# Altium footprint library elec shop.PcbLib: 6 footprints
Each footprint in its own frame and in the unit in brackets; x right, y up, seen from the top. Pads: shape width x height; smd on the part's side, far side on the other; paste and mask are expansions set on the pad; w line width, h text height; cw(c..) or ccw(c..) is an arc to the next point about the centre after c.
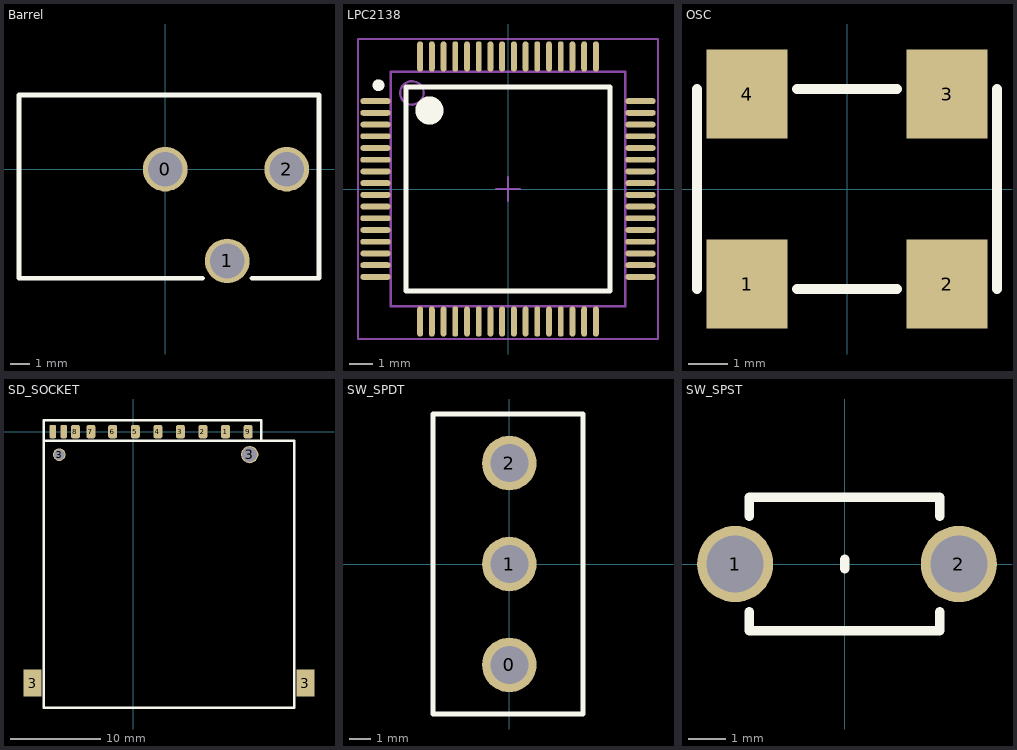
[diagram p0: the footprints below, top view; thin cyan lines are the x and y axes]

## Barrel [mil] "Barrel plug"
pads (3):
  round 90 hole 70: 0(0,0) 1(125,-185) 2(245,0)
Top Overlay:
  lines w10: 75,-220 -295,-220 -295,150 310,150 310,-220 175,-220

## LPC2138 [mm] "Thin QFP, 64-Leads, Body 10x10mm, Pitch 0.5mm, IPC High Density"
height 1.6
pads (64):
  oval 1.296x0.25 smd: 1(-5.652,3.75) 2(-5.652,3.25) 3(-5.652,2.75) 4(-5.652,2.25) 5(-5.652,1.75) 6(-5.652,1.25) 7(-5.652,0.75) 8(-5.652,0.25) 9(-5.652,-0.25) 10(-5.652,-0.75) 11(-5.652,-1.25) 12(-5.652,-1.75) 13(-5.652,-2.25) 14(-5.652,-2.75) 15(-5.652,-3.25) 16(-5.652,-3.75) 33(5.652,-3.75) 34(5.652,-3.25) 35(5.652,-2.75) 36(5.652,-2.25) 37(5.652,-1.75) 38(5.652,-1.25) 39(5.652,-0.75) 40(5.652,-0.25) 41(5.652,0.25) 42(5.652,0.75) 43(5.652,1.25) 44(5.652,1.75) 45(5.652,2.25) 46(5.652,2.75) 47(5.652,3.25) 48(5.652,3.75)
  oval 0.25x1.296 smd: 17(-3.75,-5.652) 18(-3.25,-5.652) 19(-2.75,-5.652) 20(-2.25,-5.652) 21(-1.75,-5.652) 22(-1.25,-5.652) 23(-0.75,-5.652) 24(-0.25,-5.652) 25(0.25,-5.652) 26(0.75,-5.652) 27(1.25,-5.652) 28(1.75,-5.652) 29(2.25,-5.652) 30(2.75,-5.652) 31(3.25,-5.652) 32(3.75,-5.652) 49(3.75,5.652) 50(3.25,5.652) 51(2.75,5.652) 52(2.25,5.652) 53(1.75,5.652) 54(1.25,5.652) 55(0.75,5.652) 56(0.25,5.652) 57(-0.25,5.652) 58(-0.75,5.652) 59(-1.25,5.652) 60(-1.75,5.652) 61(-2.25,5.652) 62(-2.75,5.652) 63(-3.25,5.652) 64(-3.75,5.652)
Top Overlay:
  circle w0.25: c-5.525,4.425 r0.125
  circle w0.6: c-3.35,3.35 r0.3
  lines w0.2: -4.35,-4.35 -4.35,4.35 4.35,4.35 4.35,-4.35 -4.35,-4.35
Mechanical 13:
  circle w0.1: c-4.1,4.1 r0.5
  lines w0.1: -5,-5 -5,5 5,5 5,-5 -5,-5
Mechanical 15:
  lines w0.1: -0.5,0 0.5,0 ; 0,-0.5 0,0.5 ; -6.4,-6.4 -6.4,6.4 6.4,6.4 6.4,-6.4 -6.4,-6.4
3D body: height 1.6, standoff 0, extent -5,-5 5,5

## OSC [mil] "Abracon"
pads (4):
  rect 81x89 smd: 1(-100,-95) 2(100,-95) 3(100,95) 4(-100,95)
Top Overlay:
  lines w10: -150,-100 -150,100 ; -50,-100 50,-100 ; -50,100 50,100 ; 150,-100 150,100

## SD_SOCKET [mil] "3M_SD card connect"
pads (15):
  rrect50% 39x59 smd: 1(400,0) 2(302,0) 3(204,0) 4(106,0) 5(8,0) 6(-90,0) 7(-185,0) 8(-252,0) 9(498,0)
  rect 79x118 smd: 3(-438,-1092) 3(747,-1092)
  round 55 hole 45: 3(-322,-100)
  round 75 hole 65: 3(505,-100)
  rrect50% 28x59 smd: 10(-303,0) 11(-350,0)
Top Overlay:
  lines w10: 555,-40 555,50 -389,50 -389,-40 ; -389,-40 -389,-1200 698,-1200 698,-40 -389,-40

## SW_SPDT [mil]
pads (3):
  round 100 hole 70: 0(0,-185) 1(0,0) 2(0,185)
Top Overlay:
  lines w10: -140,-275 135,-275 135,275 -140,275 -140,-275

## SW_SPST [mil] "Switch http://search.digikey.com/scripts/DkSearch/dksus.dll?Detail&name=EG2512-ND"
pads (2):
  round 80 hole 60: 1(-115,0) 2(120,0)
Top Overlay:
  lines w10: -100,-50 -100,-70 100,-70 100,-50 ; -100,50 -100,70 100,70 100,50 ; 0,-5 0,5